# Altium footprint library 杂项库.PcbLib: 585 footprints (part 34 of 37)
Each footprint in its own frame and in the unit in brackets; x right, y up, seen from the top. Pads: shape width x height; smd on the part's side, far side on the other; paste and mask are expansions set on the pad; w line width, h text height; cw(c..) or ccw(c..) is an arc to the next point about the centre after c.
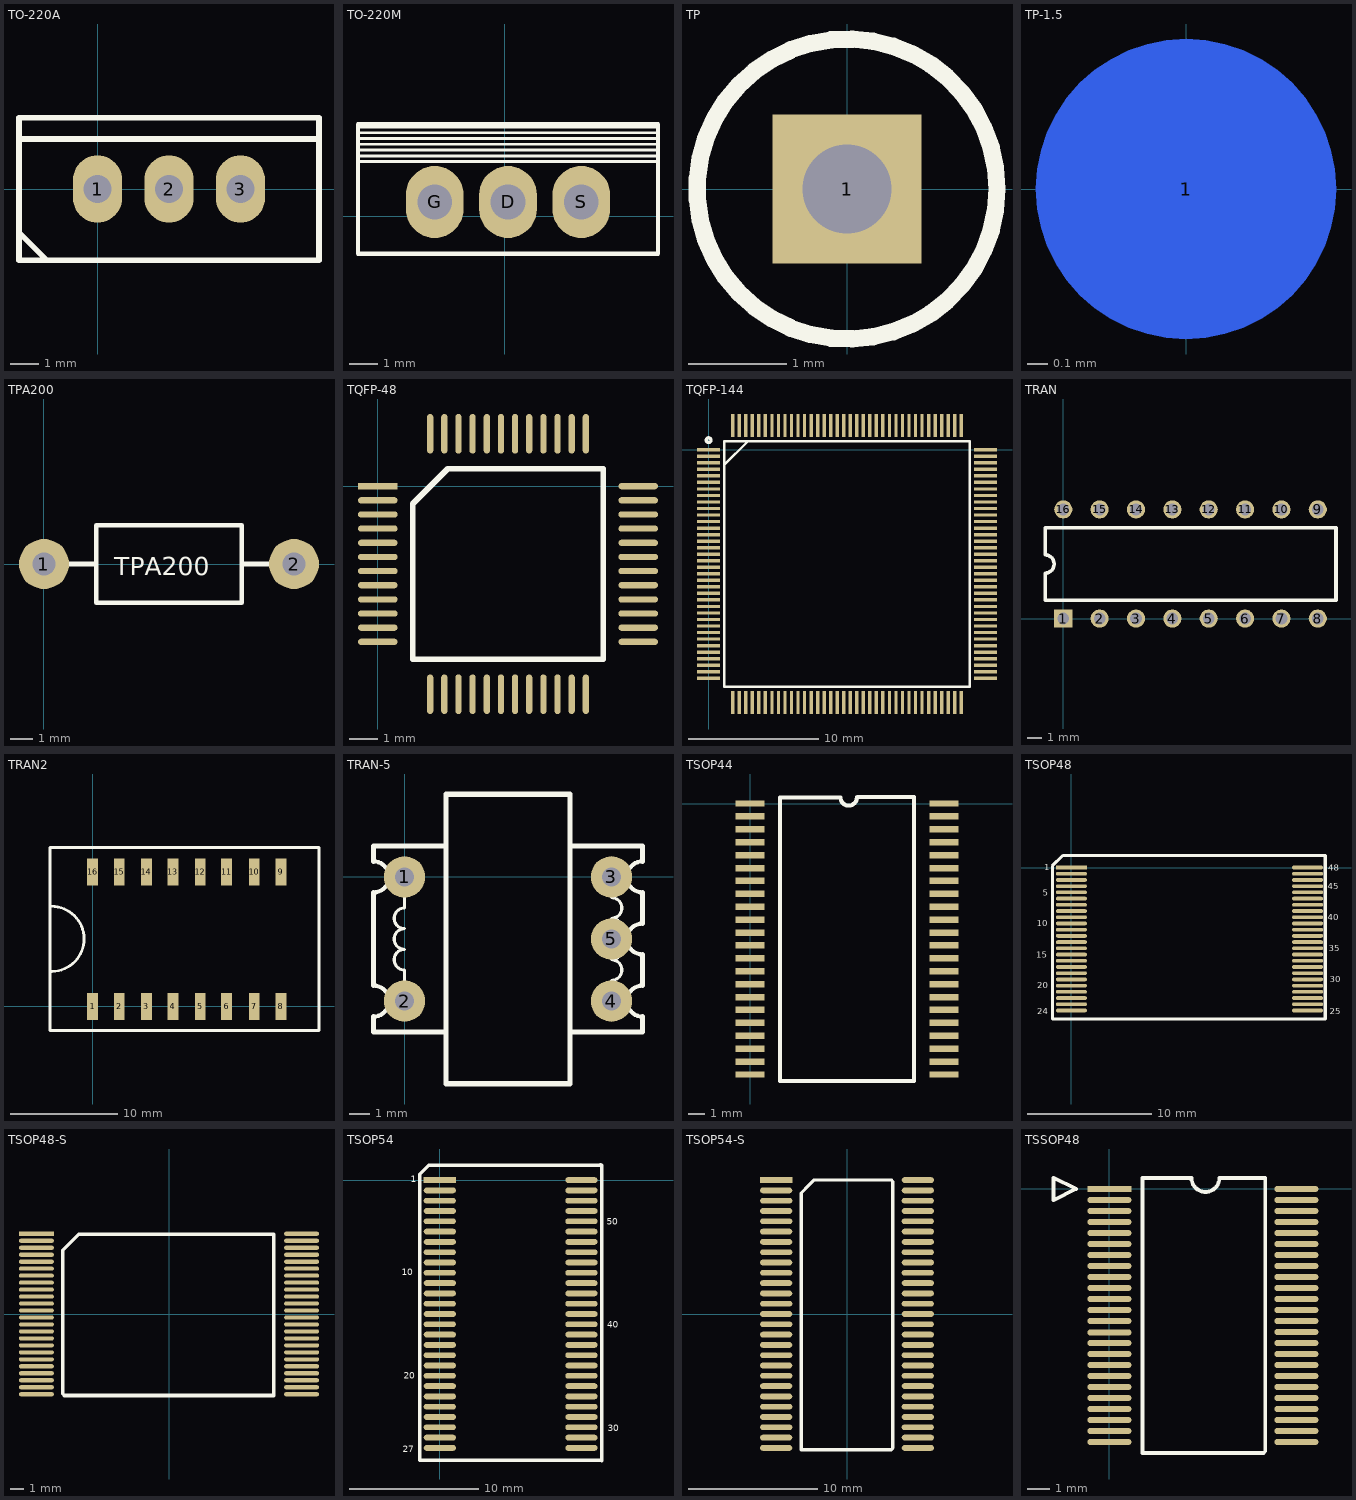
[diagram p33: the footprints below, top view; thin cyan lines are the x and y axes]

## TO-220A [mm]
pads (3):
  oval 1.75x2.4 hole 1: 1(0,0) 2(2.54,0) 3(5.08,0)
Top Overlay:
  lines w0.2: -2.794,-1.549 -1.803,-2.54 ; -2.794,1.778 7.874,1.778 ; -2.794,-2.54 7.874,-2.54 7.874,2.54 -2.794,2.54 -2.794,-2.54

## TO-220M [mm]
pads (3):
  oval 2x2.5 hole 1.2: D(0.118,0.501) G(-2.422,0.501) S(2.658,0.501)
Top Overlay:
  lines w0.1: -5.082,2.101 5.318,2.101 ; -5.082,2.301 5.318,2.301 ; -5.082,2.501 5.318,2.501 ; -5.082,2.701 5.318,2.701 ; -5.082,2.901 5.318,2.901 ; -5.082,3.101 5.318,3.101 ; -5.082,1.901 5.318,1.901 5.318,3.201 -5.082,3.201 -5.082,1.901
  lines w0.15: -5.082,-1.299 -5.082,3.201 5.318,3.201 5.318,-1.299 -5.082,-1.299

## TP [mil]
pads (1):
  rect 60x60 hole 36: 1(0,0)
Top Overlay:
  circle w7: c0,0 r60.41

## TP-1.5 [mm]
pads (1):
  round 1.5 smd far side: 1(0,0)

## TPA200 [mm]
pads (2):
  round 2.2 hole 1: 1(0,0) 2(11,0)
Top Overlay:
  lines w0.2: 0.6,0 2.3,0 ; 8.7,0 10.4,0 ; 2.3,-1.7 2.3,1.7 8.7,1.7 8.7,-1.7 2.3,-1.7
  text "TPA200" at 3.1,-0.5 h0.8

## TQFP-48 [mm]
pads (48):
  rect 1.4x0.22 smd: 1(0,0)
  oval 1.4x0.22 smd: 2(0,-0.5) 3(0,-1) 4(0,-1.5) 5(0,-2) 6(0,-2.5) 7(0,-3) 8(0,-3.5) 9(0,-4) 10(0,-4.5) 11(0,-5) 12(0,-5.5) 25(9.2,-5.5) 26(9.2,-5) 27(9.2,-4.5) 28(9.2,-4) 29(9.2,-3.5) 30(9.2,-3) 31(9.2,-2.5) 32(9.2,-2) 33(9.2,-1.5) 34(9.2,-1) 35(9.2,-0.5) 36(9.2,0)
  oval 0.22x1.4 smd: 13(1.85,-7.35) 14(2.35,-7.35) 15(2.85,-7.35) 16(3.35,-7.35) 17(3.85,-7.35) 18(4.35,-7.35) 19(4.85,-7.35) 20(5.35,-7.35) 21(5.85,-7.35) 22(6.35,-7.35) 23(6.85,-7.35) 24(7.35,-7.35) 37(7.35,1.85) 38(6.85,1.85) 39(6.35,1.85) 40(5.85,1.85) 41(5.35,1.85) 42(4.85,1.85) 43(4.35,1.85) 44(3.85,1.85) 45(3.35,1.85) 46(2.85,1.85) 47(2.35,1.85) 48(1.85,1.85)
Top Overlay:
  lines w0.2: 1.235,-6.115 7.965,-6.115 7.965,0.615 2.47,0.615 1.235,-0.62 1.235,-6.115

## TQFP-144 [mil]
pads (144):
  rect 70x10 smd: 1(0,0) 2(0,-19.68) 3(0,-39.37) 4(0,-59.05) 5(0,-78.74) 6(0,-98.42) 7(0,-118.11) 8(0,-137.79) 9(0,-157.48) 10(0,-177.16) 11(0,-196.85) 12(0,-216.53) 13(0,-236.22) 14(0,-255.91) 15(0,-275.59) 16(0,-295.28) 17(0,-314.96) 18(0,-334.65) 19(0,-354.33) 20(0,-374.02) 21(0,-393.7) 22(0,-413.39) 23(0,-433.07) 24(0,-452.76) 25(0,-472.44) 26(0,-492.13) 27(0,-511.81) 28(0,-531.5) 29(0,-551.18) 30(0,-570.87) 31(0,-590.55) 32(0,-610.24) 33(0,-629.92) 34(0,-649.61) 35(0,-669.29) 36(0,-688.98) 73(834.65,-688.98) 74(834.65,-669.29) 75(834.65,-649.61) 76(834.65,-629.92) 77(834.65,-610.24) 78(834.65,-590.55) 79(834.65,-570.87) 80(834.65,-551.18) 81(834.65,-531.5) 82(834.65,-511.81) 83(834.65,-492.13) 84(834.65,-472.44) 85(834.65,-452.76) 86(834.65,-433.07) 87(834.65,-413.39) 88(834.65,-393.7) 89(834.65,-374.02) 90(834.65,-354.33) 91(834.65,-334.65) 92(834.65,-314.96) 93(834.65,-295.28) 94(834.65,-275.59) 95(834.65,-255.91) 96(834.65,-236.22) 97(834.65,-216.53) 98(834.65,-196.85) 99(834.65,-177.16) 100(834.65,-157.48) 101(834.65,-137.79) 102(834.65,-118.11) 103(834.65,-98.42) 104(834.65,-78.74) 105(834.65,-59.05) 106(834.65,-39.37) 107(834.65,-19.68) 108(834.65,0)
  rect 10x70 smd: 37(72.83,-761.81) 38(92.52,-761.81) 39(112.2,-761.81) 40(131.89,-761.81) 41(151.57,-761.81) 42(171.26,-761.81) 43(190.94,-761.81) 44(210.63,-761.81) 45(230.31,-761.81) 46(250,-761.81) 47(269.69,-761.81) 48(289.37,-761.81) 49(309.06,-761.81) 50(328.74,-761.81) 51(348.43,-761.81) 52(368.11,-761.81) 53(387.8,-761.81) 54(407.48,-761.81) 55(427.17,-761.81) 56(446.85,-761.81) 57(466.54,-761.81) 58(486.22,-761.81) 59(505.91,-761.81) 60(525.59,-761.81) 61(545.28,-761.81) 62(564.96,-761.81) 63(584.65,-761.81) 64(604.33,-761.81) 65(624.02,-761.81) 66(643.7,-761.81) 67(663.39,-761.81) 68(683.07,-761.81) 69(702.76,-761.81) 70(722.44,-761.81) 71(742.13,-761.81) 72(761.81,-761.81) 109(761.81,72.83) 110(742.13,72.83) 111(722.44,72.83) 112(702.76,72.83) 113(683.07,72.83) 114(663.39,72.83) 115(643.7,72.83) 116(624.02,72.83) 117(604.33,72.83) 118(584.65,72.83) 119(564.96,72.83) 120(545.28,72.83) 121(525.59,72.83) 122(505.91,72.83) 123(486.22,72.83) 124(466.54,72.83) 125(446.85,72.83) 126(427.17,72.83) 127(407.48,72.83) 128(387.8,72.83) 129(368.11,72.83) 130(348.43,72.83) 131(328.74,72.83) 132(309.06,72.83) 133(289.37,72.83) 134(269.69,72.83) 135(250,72.83) 136(230.31,72.83) 137(210.63,72.83) 138(190.94,72.83) 139(171.26,72.83) 140(151.57,72.83) 141(131.89,72.83) 142(112.2,72.83) 143(92.52,72.83) 144(72.83,72.83)
Top Overlay:
  circle w9.84: c-0.02,29 r7.02
  lines w7.8: 47.41,-45 118,25.59
  lines w7.87: 47.24,-714.57 47.24,25.59 787.4,25.59 787.4,-714.57 47.24,-714.57

## TRAN [mil]
pads (16):
  rect 50x50 hole 32: 1(0,0)
  round 50 hole 32: 2(100,0) 3(200,0) 4(300,0) 5(400,0) 6(500,0) 7(600,0) 8(700,0) 9(700,300) 10(600,300) 11(500,300) 12(400,300) 13(300,300) 14(200,300) 15(100,300) 16(0,300)
Top Overlay:
  lines w10: -50,50 750,50 750,250 -50,250 -50,175 cw(c-50,150) -50,125 -50,50

## TRAN2 [mm]
pads (16):
  rect 1x2.5 smd: 1(0,0) 2(2.489,0) 3(5.004,0) 4(7.468,0) 5(10.008,0) 6(12.446,0) 7(15.011,0) 8(17.501,0) 9(17.501,12.497) 10(15.011,12.497) 11(12.446,12.497) 12(10.008,12.497) 13(7.468,12.497) 14(5.004,12.497) 15(2.489,12.497) 16(0,12.497)
Top Overlay:
  lines w0.254: -3.81,9.297 cw(c-3.81,6.274) -3.759,3.251 ; -3.962,-2.235 21.038,-2.235 21.038,14.765 -3.962,14.765 -3.962,-2.235

## TRAN-5 [mm]
pads (5):
  round 2 hole 0.93: 1(0,0) 2(0,-6) 3(10,0) 4(10,-6) 5(10,-3)
Top Overlay:
  lines w0.15: 0,-5.5 0,-5 0,-4.5 cw(c0,-4) 0,-3.5 cw(c0,-3) 0,-2.5 cw(c0,-2) 0,-1.5 0,-1 0,-0.5 ; 10,-5.5 10,-5 ccw(c10,-4.5) 10,-4 ccw(c10,-3.5) 10,-3 ccw(c10,-2.5) 10,-2 ccw(c10,-1.5) 10,-1 10,-0.5
  lines w0.2: -1.5,-6.75 ccw(c-1.5,-6) -1.5,-5.25 ; -1.5,-0.75 ccw(c-1.5,0) -1.5,0.75 ; 11.5,-6.75 cw(c11.5,-6) 11.5,-5.25 ; 11.5,-3.75 cw(c11.5,-3) 11.5,-2.25 ; 11.5,-0.75 cw(c11.5,0) 11.5,0.75
  lines w0.254: -1.5,-6.75 -1.5,-7.5 2,-7.5 ; -1.5,-5.25 -1.5,-0.75 ; -1.5,0.75 -1.5,1.5 2,1.5 ; 8,-7.5 11.5,-7.5 11.5,-6.75 ; 8,1.5 11.5,1.5 11.5,0.75 ; 11.5,-5.25 11.5,-3.75 ; 11.5,-2.25 11.5,-0.75 ; 2,-10 2,4 8,4 8,-10 2,-10

## TSOP44 [mm]
pads (44):
  rect 1.8x0.4 smd: 1(-0.009,0.001) 2(-0.009,-0.799) 3(-0.009,-1.599) 4(-0.009,-2.399) 5(-0.009,-3.199) 6(-0.009,-3.999) 7(-0.009,-4.799) 8(-0.009,-5.599) 9(-0.009,-6.399) 10(-0.009,-7.199) 11(-0.009,-7.999) 12(-0.009,-8.799) 13(-0.009,-9.599) 14(-0.009,-10.399) 15(-0.009,-11.199) 16(-0.009,-11.999) 17(-0.009,-12.799) 18(-0.009,-13.599) 19(-0.009,-14.399) 20(-0.009,-15.199) 21(-0.009,-15.999) 22(-0.009,-16.799) 23(11.991,-16.799) 24(11.991,-15.999) 25(11.991,-15.199) 26(11.991,-14.399) 27(11.991,-13.599) 28(11.991,-12.799) 29(11.991,-11.999) 30(11.991,-11.199) 31(11.991,-10.399) 32(11.991,-9.599) 33(11.991,-8.799) 34(11.991,-7.999) 35(11.991,-7.199) 36(11.991,-6.399) 37(11.991,-5.599) 38(11.991,-4.799) 39(11.991,-3.999) 40(11.991,-3.199) 41(11.991,-2.399) 42(11.991,-1.599) 43(11.991,-0.799) 44(11.991,0.001)
Top Overlay:
  lines w0.2: 1.826,-17.199 10.156,-17.199
  lines w0.254: 6.604,0.381 cw(c6.096,0.381) 5.588,0.381 1.846,0.381 1.846,-17.18 1.826,-17.199 10.156,-17.199 ; 6.624,0.401 10.156,0.401 10.156,-17.199 ; 10.156,-17.199 10.156,-17.199

## TSOP48 [mm]
pads (48):
  rect 2.5x0.3 smd: 1(0,0)
  oval 2.5x0.3 smd: 2(0,-0.5) 3(0,-1) 4(0,-1.5) 5(0,-2) 6(0,-2.5) 7(0,-3) 8(0,-3.5) 9(0,-4) 10(0,-4.5) 11(0,-5) 12(0,-5.5) 13(0,-6) 14(0,-6.5) 15(0,-7) 16(0,-7.5) 17(0,-8) 18(0,-8.5) 19(0,-9) 20(0,-9.5) 21(0,-10) 22(0,-10.5) 23(0,-11) 24(0,-11.5) 25(19,-11.5) 26(19,-11) 27(19,-10.5) 28(19,-10) 29(19,-9.5) 30(19,-9) 31(19,-8.5) 32(19,-8) 33(19,-7.5) 34(19,-7) 35(19,-6.5) 36(19,-6) 37(19,-5.5) 38(19,-5) 39(19,-4.5) 40(19,-4) 41(19,-3.5) 42(19,-3) 43(19,-2.5) 44(19,-2) 45(19,-1.5) 46(19,-1) 47(19,-0.5) 48(19,0)
Top Overlay:
  lines w0.254: -1.524,-12.192 20.244,-12.192 20.422,-12.192 20.422,0.965 -0.686,0.965 -1.524,0.127 -1.524,-12.192
  text "45" at 20.625,-1.753 h0.51
  text "48" at 20.676,-0.254 h0.51
  text "40" at 20.625,-4.242 h0.51
  text "35" at 20.701,-6.731 h0.51
  text "30" at 20.777,-9.22 h0.51
  text "25" at 20.777,-11.786 h0.51
  text "24" at -2.743,-11.811 h0.51
  text "20" at -2.743,-9.728 h0.51
  text "15" at -2.845,-7.264 h0.51
  text "10" at -2.769,-4.724 h0.51
  text "5" at -2.311,-2.286 h0.51
  text "1" at -2.184,-0.203 h0.51

## TSOP48-S [mm]
pads (48):
  rect 2.5x0.3 smd: 1(-9.5,5.75)
  oval 2.5x0.3 smd: 2(-9.5,5.25) 3(-9.5,4.75) 4(-9.5,4.25) 5(-9.5,3.75) 6(-9.5,3.25) 7(-9.5,2.75) 8(-9.5,2.25) 9(-9.5,1.75) 10(-9.5,1.25) 11(-9.5,0.75) 12(-9.5,0.25) 13(-9.5,-0.25) 14(-9.5,-0.75) 15(-9.5,-1.25) 16(-9.5,-1.75) 17(-9.5,-2.25) 18(-9.5,-2.75) 19(-9.5,-3.25) 20(-9.5,-3.75) 21(-9.5,-4.25) 22(-9.5,-4.75) 23(-9.5,-5.25) 24(-9.5,-5.75) 25(9.5,-5.75) 26(9.5,-5.25) 27(9.5,-4.75) 28(9.5,-4.25) 29(9.5,-3.75) 30(9.5,-3.25) 31(9.5,-2.75) 32(9.5,-2.25) 33(9.5,-1.75) 34(9.5,-1.25) 35(9.5,-0.75) 36(9.5,-0.25) 37(9.5,0.25) 38(9.5,0.75) 39(9.5,1.25) 40(9.5,1.75) 41(9.5,2.25) 42(9.5,2.75) 43(9.5,3.25) 44(9.5,3.75) 45(9.5,4.25) 46(9.5,4.75) 47(9.5,5.25) 48(9.5,5.75)
Top Overlay:
  lines w0.254: -6.35,5.715 7.493,5.715 7.493,-5.842 -7.493,-5.842 -7.62,-5.715 -7.62,4.572 -6.477,5.715 -5.969,5.715

## TSOP54 [mm]
pads (54):
  rect 2.5x0.45 smd: 1(0,0)
  oval 2.5x0.45 smd: 2(0,-0.8) 3(0,-1.6) 4(0,-2.4) 5(0,-3.2) 6(0,-4) 7(0,-4.8) 8(0,-5.6) 9(0,-6.4) 10(0,-7.2) 11(0,-8) 12(0,-8.8) 13(0,-9.6) 14(0,-10.4) 15(0,-11.2) 16(0,-12) 17(0,-12.8) 18(0,-13.6) 19(0,-14.4) 20(0,-15.2) 21(0,-16) 22(0,-16.8) 23(0,-17.6) 24(0,-18.4) 25(0,-19.2) 26(0,-20) 27(0,-20.8) 28(11,-20.8) 29(11,-20) 30(11,-19.2) 31(11,-18.4) 32(11,-17.6) 33(11,-16.8) 34(11,-16) 35(11,-15.2) 36(11,-14.4) 37(11,-13.6) 38(11,-12.8) 39(11,-12) 40(11,-11.2) 41(11,-10.4) 42(11,-9.6) 43(11,-8.8) 44(11,-8) 45(11,-7.2) 46(11,-6.4) 47(11,-5.6) 48(11,-4.8) 49(11,-4) 50(11,-3.2) 51(11,-2.4) 52(11,-1.6) 53(11,-0.8) 54(11,0)
Top Overlay:
  lines w0.254: 12.497,-21.768 -1.549,-21.768 -1.549,0.457 -0.864,1.143 12.421,1.143 12.497,1.219 ; 12.573,-21.819 12.573,1.168
  text "50" at 12.954,-3.454 h0.51
  text "40" at 13.005,-11.481 h0.51
  text "30" at 13.03,-19.507 h0.51
  text "1" at -2.261,-0.152 h0.51
  text "10" at -2.946,-7.391 h0.51
  text "20" at -2.819,-15.443 h0.51
  text "27" at -2.87,-21.133 h0.51

## TSOP54-S [mm]
pads (54):
  rect 2.5x0.45 smd: 1(-5.5,10.4)
  oval 2.5x0.45 smd: 2(-5.5,9.6) 3(-5.5,8.8) 4(-5.5,8) 5(-5.5,7.2) 6(-5.5,6.4) 7(-5.5,5.6) 8(-5.5,4.8) 9(-5.5,4) 10(-5.5,3.2) 11(-5.5,2.4) 12(-5.5,1.6) 13(-5.5,0.8) 14(-5.5,0) 15(-5.5,-0.8) 16(-5.5,-1.6) 17(-5.5,-2.4) 18(-5.5,-3.2) 19(-5.5,-4) 20(-5.5,-4.8) 21(-5.5,-5.6) 22(-5.5,-6.4) 23(-5.5,-7.2) 24(-5.5,-8) 25(-5.5,-8.8) 26(-5.5,-9.6) 27(-5.5,-10.4) 28(5.5,-10.4) 29(5.5,-9.6) 30(5.5,-8.8) 31(5.5,-8) 32(5.5,-7.2) 33(5.5,-6.4) 34(5.5,-5.6) 35(5.5,-4.8) 36(5.5,-4) 37(5.5,-3.2) 38(5.5,-2.4) 39(5.5,-1.6) 40(5.5,-0.8) 41(5.5,0) 42(5.5,0.8) 43(5.5,1.6) 44(5.5,2.4) 45(5.5,3.2) 46(5.5,4) 47(5.5,4.8) 48(5.5,5.6) 49(5.5,6.4) 50(5.5,7.2) 51(5.5,8) 52(5.5,8.8) 53(5.5,9.6) 54(5.5,10.4)
Top Overlay:
  lines w0.254: -3.556,-10.541 3.429,-10.541 3.556,-10.414 3.556,10.287 3.429,10.414 -2.54,10.414 -2.921,10.033 -3.556,9.398 -3.556,-10.541

## TSSOP48 [mm]
pads (48):
  rect 2x0.279 smd: 1(0,0)
  oval 2x0.279 smd: 2(0,-0.5) 3(0,-1) 4(0,-1.5) 5(0,-2) 6(0,-2.5) 7(0,-3) 8(0,-3.5) 9(0,-4) 10(0,-4.5) 11(0,-5) 12(0,-5.5) 13(0,-6) 14(0,-6.52) 15(0,-7) 16(0,-7.5) 17(0,-8) 18(0,-8.5) 19(0,-9) 20(0,-9.5) 21(0,-10) 22(0,-10.5) 23(0,-11) 24(0,-11.5) 25(8.5,-11.5) 26(8.5,-11) 27(8.5,-10.5) 28(8.5,-10) 29(8.5,-9.5) 30(8.5,-9) 31(8.5,-8.5) 32(8.5,-8) 33(8.5,-7.5) 34(8.5,-7) 35(8.5,-6.5) 36(8.5,-6) 37(8.5,-5.5) 38(8.5,-5) 39(8.5,-4.5) 40(8.5,-4) 41(8.5,-3.5) 42(8.5,-3) 43(8.5,-2.5) 44(8.5,-2) 45(8.5,-1.5) 46(8.5,-1) 47(8.5,-0.5) 48(8.5,0)
Top Overlay:
  lines w0.178: 7,-12 7.081,-11.919 ; 7,-12 1.5,-12 1.5,0.5 3.73,0.5 ccw(c4.365,0.5) 5,0.5 7.081,0.5 7.081,-11.919 ; 7,-12 7.081,-11.919 ; -2.54,-0.508 -2.54,0.508 -1.524,0 -2.54,-0.508